# EAGLE library part DE1A1B-L (library Panasonic Relay)
DE - 1 Form A 1 Form B - 1 coil latching Data sheet <https://www.panasonic-electric-works.com/eu/download.htm?id=55607> Parameters Max. switching voltage: 230V DC, 440V AC Max. switching current: 8 A / 16 A Operational function: Single side stable, 1 coil latching, 2 coil latching Contact arrangement: 1 NO / 2 NO / 1 NO 1 NC Applications Temperature controller Automatic meter reading OA equipment FA equipment Options Also available as single side stable and 2 coil latching version
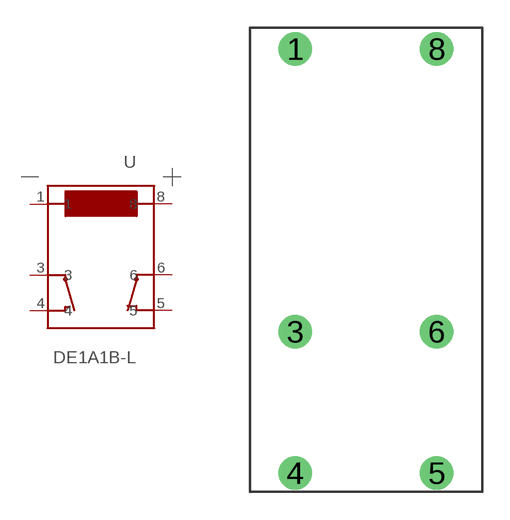
[diagram p69: symbol with the pads of DE_SSS_&_1CLT; footprint DE_SSS_&_1CLT]

Designator prefix -

## DE1A1B-L-1.5V (U_COIL: 1.5V DC), DE1A1B-L-12V (U_COIL: 12V DC), DE1A1B-L-24V (U_COIL: 24V DC), DE1A1B-L-3V (U_COIL: 3V DC), DE1A1B-L-4.5V (U_COIL: 4.5V DC), DE1A1B-L-5V (U_COIL: 5V DC), DE1A1B-L-6V (U_COIL: 6V DC), DE1A1B-L-9V (U_COIL: 9V DC)  [DE_SSS_&_1CLT]
1  1
3  3
4  4
5  5
6  6
8  8

## Footprint DE_SSS_&_1CLT (pad centres in mm)
drill 1.2: 1 -3.81,11.36; 3 -3.81,-3.88; 4 -3.81,-11.5; 5 3.81,-11.5; 6 3.81,-3.88; 8 3.81,11.36